# Altium schematic symbol library D 单片机.SchLib: 30 symbols
Pins are listed as number, name and electrical type; pins without a type are passive.

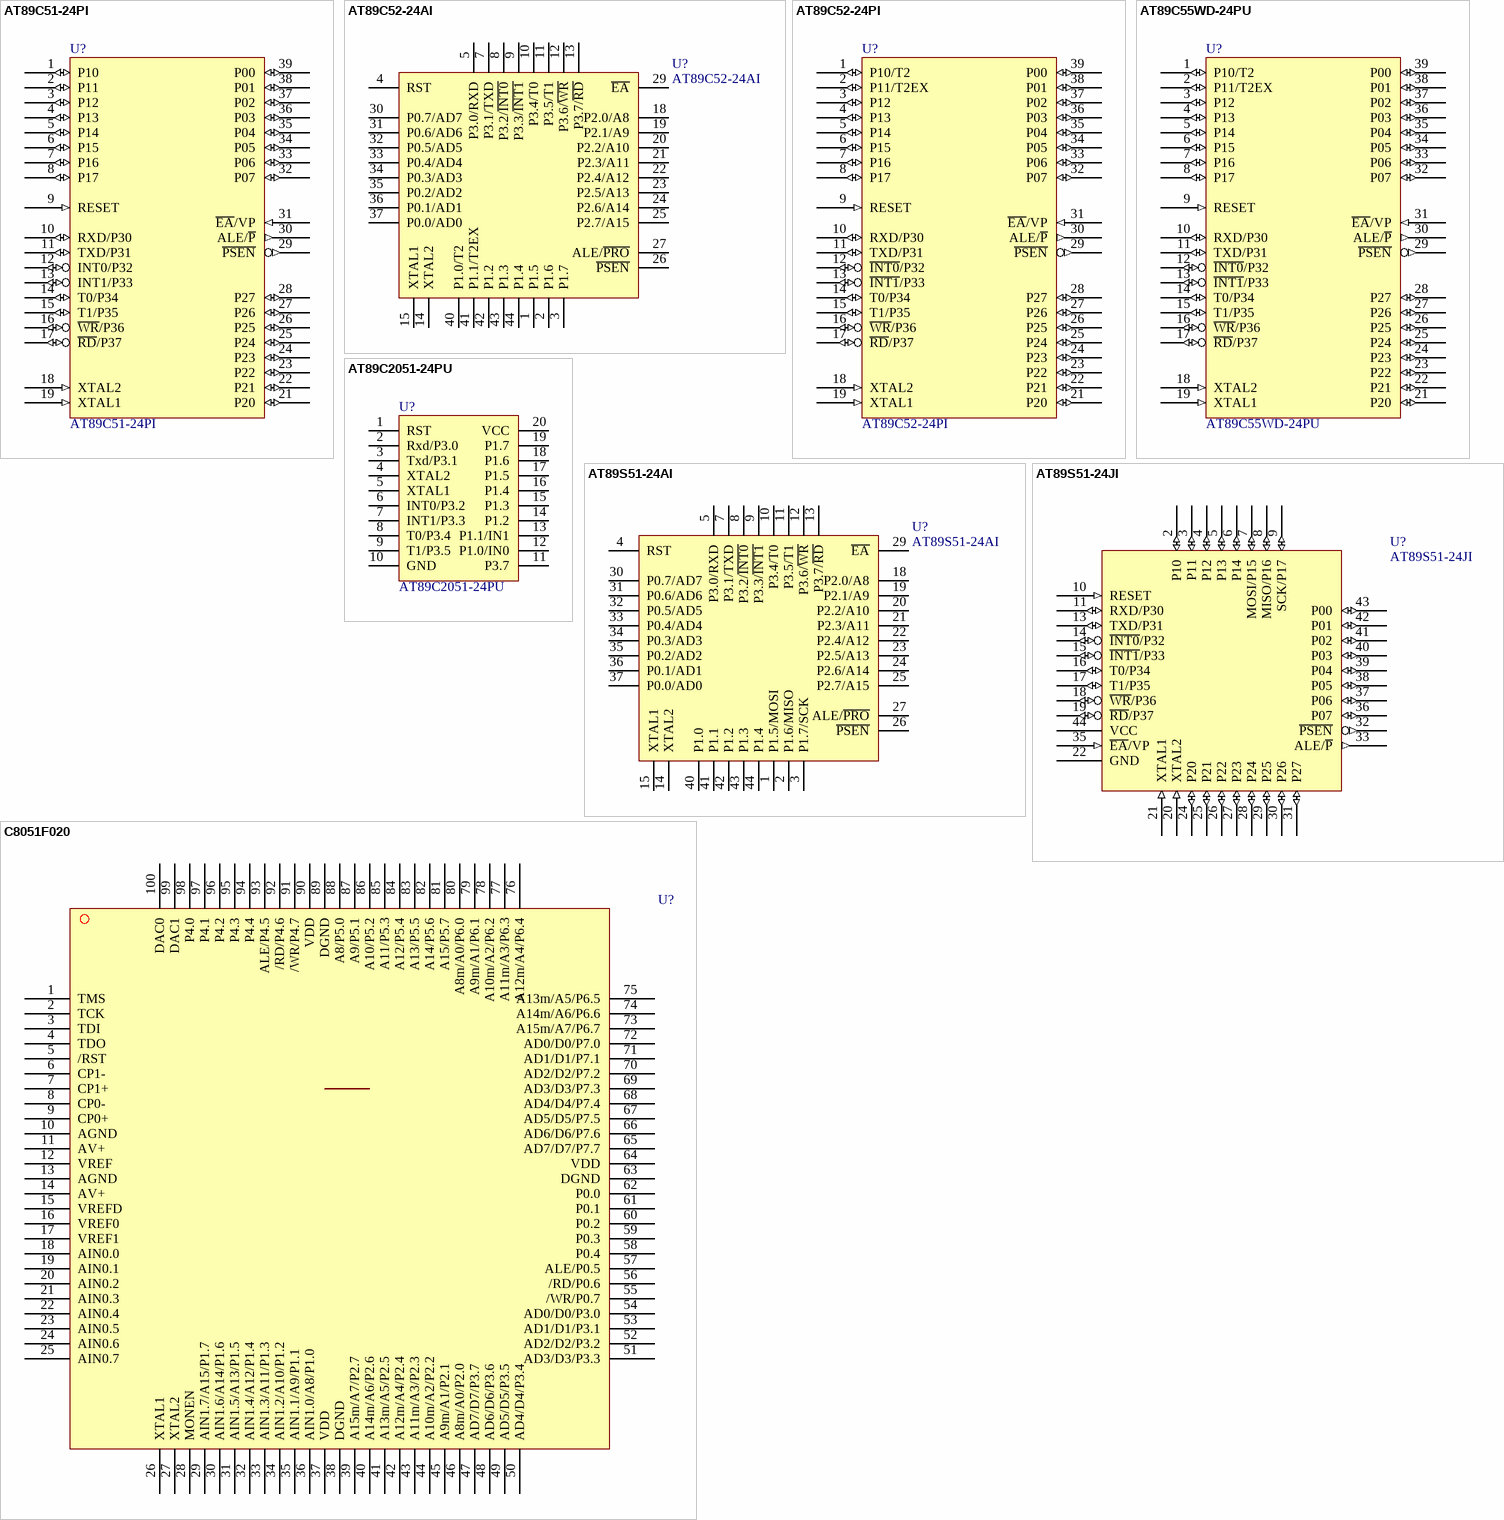
[diagram p0: symbols AT89C51-24PI to C8051F020]

## AT89C51-24PI
designator U?
ATMEL 51单片机
footprint DIP-40 (IC)
pins: 1 P10 (io), 2 P11 (io), 3 P12 (io), 4 P13 (io), 5 P14 (io), 6 P15 (io), 7 P16 (io), 8 P17 (io), 9 RESET (in), 10 RXD/P30 (io), 11 TXD/P31 (io), 12 INT0/P32 (io), 13 INT1/P33 (io), 14 T0/P34 (io), 15 T1/P35 (io), 16 ~{WR}/P36 (io), 17 ~{RD}/P37 (io), 18 XTAL2 (in), 19 XTAL1 (in), 20 GND hidden to GND, 21 P20 (io), 22 P21 (io), 23 P22 (io), 24 P23 (io), 25 P24 (io), 26 P25 (io), 27 P26 (io), 28 P27 (io), 29 ~{PSEN} (out), 30 ALE/~{P} (out), 31 ~{EA}/VP (in), 32 P07 (io), 33 P06 (io), 34 P05 (io), 35 P04 (io), 36 P03 (io), 37 P02 (io), 38 P01 (io), 39 P00 (io), 40 VCC hidden to VCC

## AT89C52-24AI
designator U?
ATMEL 51单片机
footprint TQFP-44
pins: 1 P1.5, 2 P1.6, 3 P1.7, 4 RST, 5 P3.0/RXD, 7 P3.1/TXD, 8 P3.2/~{INT0}, 9 P3.3/~{INT1}, 10 P3.4/T0, 11 P3.5/T1, 12 P3.6/~{WR}, 13 P3.7/~{RD}, 14 XTAL2, 15 XTAL1, 16 GND hidden to GND, 18 P2.0/A8, 19 P2.1/A9, 20 P2.2/A10, 21 P2.3/A11, 22 P2.4/A12, 23 P2.5/A13, 24 P2.6/A14, 25 P2.7/A15, 26 ~{PSEN}, 27 ALE/~{PRO}, 29 ~{EA}, 30 P0.7/AD7, 31 P0.6/AD6, 32 P0.5/AD5, 33 P0.4/AD4, 34 P0.3/AD3, 35 P0.2/AD2, 36 P0.1/AD1, 37 P0.0/AD0, 38 VCC hidden to VCC, 40 P1.0/T2, 41 P1.1/T2EX, 42 P1.2, 43 P1.3, 44 P1.4

## AT89C52-24PI
designator U?
ATMEL 51单片机
footprint DIP-40 (IC)
pins: 1 P10/T2 (io), 2 P11/T2EX (io), 3 P12 (io), 4 P13 (io), 5 P14 (io), 6 P15 (io), 7 P16 (io), 8 P17 (io), 9 RESET (in), 10 RXD/P30 (io), 11 TXD/P31 (io), 12 ~{INT0}/P32 (io), 13 ~{INT1}/P33 (io), 14 T0/P34 (io), 15 T1/P35 (io), 16 ~{WR}/P36 (io), 17 ~{RD}/P37 (io), 18 XTAL2 (in), 19 XTAL1 (in), 20 GND hidden to GND, 21 P20 (io), 22 P21 (io), 23 P22 (io), 24 P23 (io), 25 P24 (io), 26 P25 (io), 27 P26 (io), 28 P27 (io), 29 ~{PSEN} (out), 30 ALE/~{P} (out), 31 ~{EA}/VP (in), 32 P07 (io), 33 P06 (io), 34 P05 (io), 35 P04 (io), 36 P03 (io), 37 P02 (io), 38 P01 (io), 39 P00 (io), 40 VCC hidden to VCC

## AT89C55WD-24PU
designator U?
ATMEL 51单片机
footprint DIP-40 (IC)
pins: 1 P10/T2 (io), 2 P11/T2EX (io), 3 P12 (io), 4 P13 (io), 5 P14 (io), 6 P15 (io), 7 P16 (io), 8 P17 (io), 9 RESET (in), 10 RXD/P30 (io), 11 TXD/P31 (io), 12 ~{INT0}/P32 (io), 13 ~{INT1}/P33 (io), 14 T0/P34 (io), 15 T1/P35 (io), 16 ~{WR}/P36 (io), 17 ~{RD}/P37 (io), 18 XTAL2 (in), 19 XTAL1 (in), 20 GND hidden to GND, 21 P20 (io), 22 P21 (io), 23 P22 (io), 24 P23 (io), 25 P24 (io), 26 P25 (io), 27 P26 (io), 28 P27 (io), 29 ~{PSEN} (out), 30 ALE/~{P} (out), 31 ~{EA}/VP (in), 32 P07 (io), 33 P06 (io), 34 P05 (io), 35 P04 (io), 36 P03 (io), 37 P02 (io), 38 P01 (io), 39 P00 (io), 40 VCC hidden to VCC

## AT89C2051-24PU
designator U?
ATMEL 51单片机
footprint DIP-20 (IC)
pins: 1 RST, 2 Rxd/P3.0, 3 Txd/P3.1, 4 XTAL2, 5 XTAL1, 6 INT0/P3.2, 7 INT1/P3.3, 8 T0/P3.4, 9 T1/P3.5, 10 GND (power), 11 P3.7, 12 P1.0/IN0, 13 P1.1/IN1, 14 P1.2, 15 P1.3, 16 P1.4, 17 P1.5, 18 P1.6, 19 P1.7, 20 VCC (power)

## AT89S51-24AI
designator U?
ATMEL 51单片机
footprint TQFP-44
pins: 1 P1.5/MOSI, 2 P1.6/MISO, 3 P1.7/SCK, 4 RST, 5 P3.0/RXD, 7 P3.1/TXD, 8 P3.2/~{INT0}, 9 P3.3/~{INT1}, 10 P3.4/T0, 11 P3.5/T1, 12 P3.6/~{WR}, 13 P3.7/~{RD}, 14 XTAL2, 15 XTAL1, 16 GND hidden to GND, 18 P2.0/A8, 19 P2.1/A9, 20 P2.2/A10, 21 P2.3/A11, 22 P2.4/A12, 23 P2.5/A13, 24 P2.6/A14, 25 P2.7/A15, 26 ~{PSEN}, 27 ALE/~{PRO}, 29 ~{EA}, 30 P0.7/AD7, 31 P0.6/AD6, 32 P0.5/AD5, 33 P0.4/AD4, 34 P0.3/AD3, 35 P0.2/AD2, 36 P0.1/AD1, 37 P0.0/AD0, 38 VCC hidden to VCC, 40 P1.0, 41 P1.1, 42 P1.2, 43 P1.3, 44 P1.4

## AT89S51-24JI
designator U?
ATMEL 51单片机
footprint PLCC-44 (Footprint not found)
pins: 2 P10 (io), 3 P11 (io), 4 P12 (io), 5 P13 (io), 6 P14 (io), 7 MOSI/P15 (io), 8 MISO/P16 (io), 9 SCK/P17 (io), 10 RESET (in), 11 RXD/P30 (io), 13 TXD/P31 (io), 14 ~{INT0}/P32 (io), 15 ~{INT1}/P33 (io), 16 T0/P34 (io), 17 T1/P35 (io), 18 ~{WR}/P36 (io), 19 ~{RD}/P37 (io), 20 XTAL2 (in), 21 XTAL1 (in), 22 GND (power), 24 P20 (io), 25 P21 (io), 26 P22 (io), 27 P23 (io), 28 P24 (io), 29 P25 (io), 30 P26 (io), 31 P27 (io), 32 ~{PSEN} (out), 33 ALE/~{P} (out), 35 ~{EA}/VP (in), 36 P07 (io), 37 P06 (io), 38 P05 (io), 39 P04 (io), 40 P03 (io), 41 P02 (io), 42 P01 (io), 43 P00 (io), 44 VCC (power)

## C8051F020
designator U?
CYGNAL单片机
pins: 1 TMS, 2 TCK, 3 TDI, 4 TDO, 5 /RST, 6 CP1-, 7 CP1+, 8 CP0-, 9 CP0+, 10 AGND, 11 AV+, 12 VREF, 13 AGND, 14 AV+, 15 VREFD, 16 VREF0, 17 VREF1, 18 AIN0.0, 19 AIN0.1, 20 AIN0.2, 21 AIN0.3, 22 AIN0.4, 23 AIN0.5, 24 AIN0.6, 25 AIN0.7, 26 XTAL1, 27 XTAL2, 28 MONEN, 29 AIN1.7/A15/P1.7, 30 AIN1.6/A14/P1.6, 31 AIN1.5/A13/P1.5, 32 AIN1.4/A12/P1.4, 33 AIN1.3/A11/P1.3, 34 AIN1.2/A10/P1.2, 35 AIN1.1/A9/P1.1, 36 AIN1.0/A8/P1.0, 37 VDD, 38 DGND, 39 A15m/A7/P2.7, 40 A14m/A6/P2.6, 41 A13m/A5/P2.5, 42 A12m/A4/P2.4, 43 A11m/A3/P2.3, 44 A10m/A2/P2.2, 45 A9m/A1/P2.1, 46 A8m/A0/P2.0, 47 AD7/D7/P3.7, 48 AD6/D6/P3.6, 49 AD5/D5/P3.5, 50 AD4/D4/P3.4, 51 AD3/D3/P3.3, 52 AD2/D2/P3.2, 53 AD1/D1/P3.1, 54 AD0/D0/P3.0, 55 /WR/P0.7, 56 /RD/P0.6, 57 ALE/P0.5, 58 P0.4, 59 P0.3, 60 P0.2, 61 P0.1, 62 P0.0, 63 DGND, 64 VDD, 65 AD7/D7/P7.7, 66 AD6/D6/P7.6, 67 AD5/D5/P7.5, 68 AD4/D4/P7.4, 69 AD3/D3/P7.3, 70 AD2/D2/P7.2, 71 AD1/D1/P7.1, 72 AD0/D0/P7.0, 73 A15m/A7/P6.7, 74 A14m/A6/P6.6, 75 A13m/A5/P6.5, 76 A12m/A4/P6.4, 77 A11m/A3/P6.3, 78 A10m/A2/P6.2, 79 A9m/A1/P6.1, 80 A8m/A0/P6.0, 81 A15/P5.7, 82 A14/P5.6, 83 A13/P5.5, 84 A12/P5.4, 85 A11/P5.3, 86 A10/P5.2, 87 A9/P5.1, 88 A8/P5.0, 89 DGND, 90 VDD, 91 /WR/P4.7, 92 /RD/P4.6, 93 ALE/P4.5, 94 P4.4, 95 P4.3, 96 P4.2, 97 P4.1, 98 P4.0, 99 DAC1, 100 DAC0

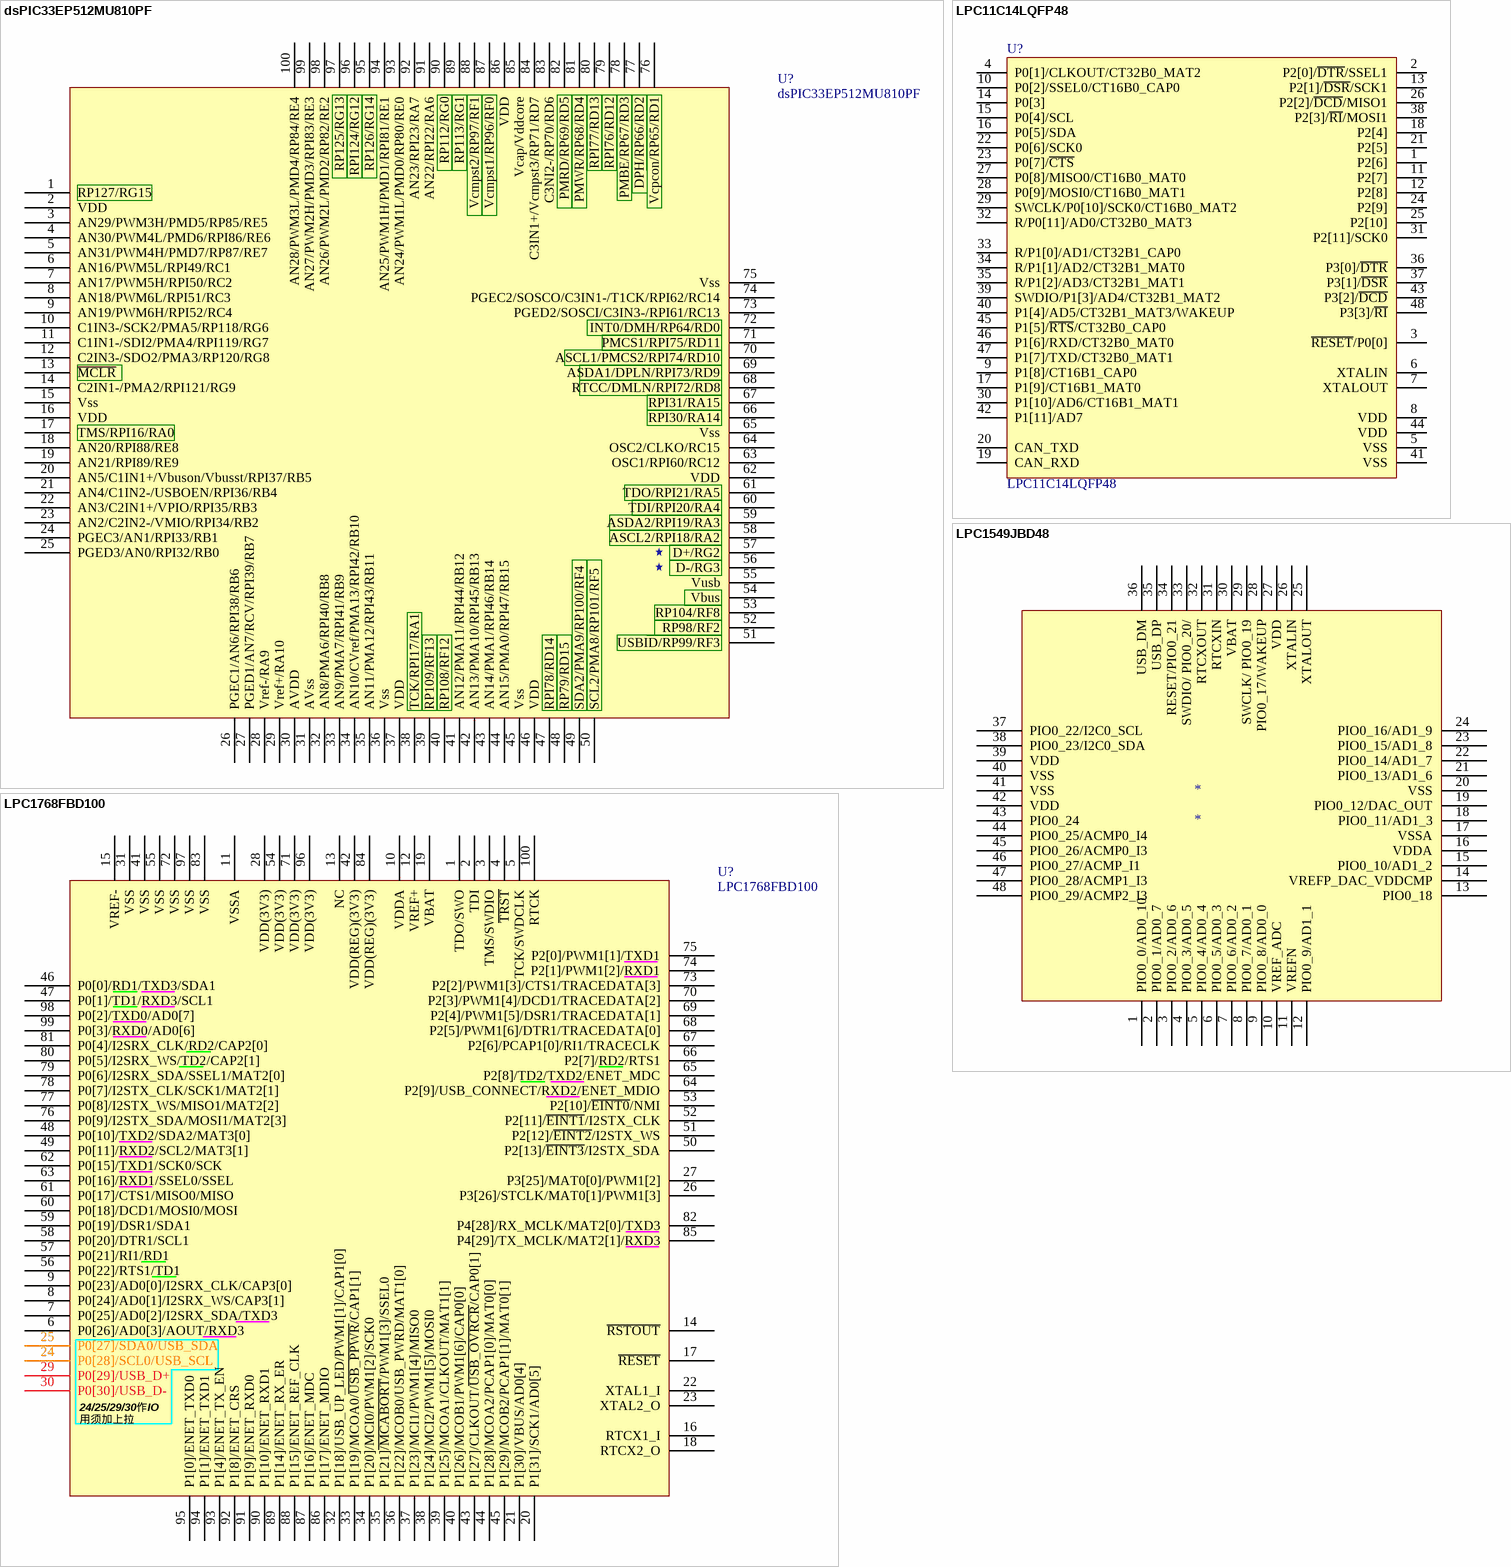
[diagram p1: symbols dsPIC33EP512MU810PF to LPC1768FBD100]

## dsPIC33EP512MU810PF
designator U?
MicroChip PIC ARM
footprint LQFP-100 (14mmx14mmx1.4mm)
pins: 1 RP127/RG15, 2 VDD, 3 AN29/PWM3H/PMD5/RP85/RE5, 4 AN30/PWM4L/PMD6/RPI86/RE6, 5 AN31/PWM4H/PMD7/RP87/RE7, 6 AN16/PWM5L/RPI49/RC1, 7 AN17/PWM5H/RPI50/RC2, 8 AN18/PWM6L/RPI51/RC3, 9 AN19/PWM6H/RPI52/RC4, 10 C1IN3-/SCK2/PMA5/RP118/RG6, 11 C1IN1-/SDI2/PMA4/RPI119/RG7, 12 C2IN3-/SDO2/PMA3/RP120/RG8, 13 ~{MCLR}, 14 C2IN1-/PMA2/RPI121/RG9, 15 Vss, 16 VDD, 17 TMS/RPI16/RA0, 18 AN20/RPI88/RE8, 19 AN21/RPI89/RE9, 20 AN5/C1IN1+/Vbuson/Vbusst/RPI37/RB5, 21 AN4/C1IN2-/USBOEN/RPI36/RB4, 22 AN3/C2IN1+/VPIO/RPI35/RB3, 23 AN2/C2IN2-/VMIO/RPI34/RB2, 24 PGEC3/AN1/RPI33/RB1, 25 PGED3/AN0/RPI32/RB0, 26 PGEC1/AN6/RPI38/RB6, 27 PGED1/AN7/RCV/RPI39/RB7, 28 Vref-/RA9, 29 Vref+/RA10, 30 AVDD, 31 AVss, 32 AN8/PMA6/RPI40/RB8, 33 AN9/PMA7/RPI41/RB9, 34 AN10/CVref/PMA13/RPI42/RB10, 35 AN11/PMA12/RPI43/RB11, 36 Vss, 37 VDD, 38 TCK/RPI17/RA1, 39 RP109/RF13, 40 RP108/RF12, 41 AN12/PMA11/RPI44/RB12, 42 AN13/PMA10/RPI45/RB13, 43 AN14/PMA1/RPI46/RB14, 44 AN15/PMA0/RPI47/RB15, 45 Vss, 46 VDD, 47 RPI78/RD14, 48 RP79/RD15, 49 SDA2/PMA9/RP100/RF4, 50 SCL2/PMA8/RP101/RF5, 51 USBID/RP99/RF3, 52 RP98/RF2, 53 RP104/RF8, 54 Vbus, 55 Vusb, 56 D-/RG3, 57 D+/RG2, 58 ASCL2/RPI18/RA2, 59 ASDA2/RPI19/RA3, 60 TDI/RPI20/RA4, 61 TDO/RPI21/RA5, 62 VDD, 63 OSC1/RPI60/RC12, 64 OSC2/CLKO/RC15, 65 Vss, 66 RPI30/RA14, 67 RPI31/RA15, 68 RTCC/DMLN/RPI72/RD8, 69 ASDA1/DPLN/RPI73/RD9, 70 ASCL1/PMCS2/RPI74/RD10, 71 PMCS1/RPI75/RD11, 72 INT0/DMH/RP64/RD0, 73 PGED2/SOSCI/C3IN3-/RPI61/RC13, 74 PGEC2/SOSCO/C3IN1-/T1CK/RPI62/RC14, 75 Vss, 76 Vcpcon/RP65/RD1, 77 DPH/RP66/RD2, 78 PMBE/RP67/RD3, 79 RPI76/RD12, 80 RPI77/RD13, 81 PMWR/RP68/RD4, 82 PMRD/RP69/RD5, 83 C3NI2-/RP70/RD6, 84 C3IN1+/Vcmpst3/RP71/RD7, 85 Vcap/Vddcore, 86 VDD, 87 Vcmpst1/RP96/RF0, 88 Vcmpst2/RP97/RF1, 89 RP113/RG1, 90 RP112/RG0, 91 AN22/RPI22/RA6, 92 AN23/RPI23/RA7, 93 AN24/PWM1L/PMD0/RP80/RE0, 94 AN25/PWM1H/PMD1/RPI81/RE1, 95 RP126/RG14, 96 RPI124/RG12, 97 RP125/RG13, 98 AN26/PWM2L/PMD2/RP82/RE2, 99 AN27/PWM2H/PMD3/RPI83/RE3, 100 AN28/PWM3L/PMD4/RP84/RE4
text: ★

## LPC11C14LQFP48
designator U?
NXP Cortex M0
footprint LQFP-48 (Footprint not found)
pins: 1 P2[6], 2 P2[0]/~{DTR}/SSEL1, 3 ~{RESET}/P0[0], 4 P0[1]/CLKOUT/CT32B0_MAT2, 5 VSS, 6 XTALIN, 7 XTALOUT, 8 VDD, 9 P1[8]/CT16B1_CAP0, 10 P0[2]/SSEL0/CT16B0_CAP0, 11 P2[7], 12 P2[8], 13 P2[1]/~{DSR}/SCK1, 14 P0[3], 15 P0[4]/SCL, 16 P0[5]/SDA, 17 P1[9]/CT16B1_MAT0, 18 P2[4], 19 CAN_RXD, 20 CAN_TXD, 21 P2[5], 22 P0[6]/SCK0, 23 P0[7]/~{CTS}, 24 P2[9], 25 P2[10], 26 P2[2]/~{DCD}/MISO1, 27 P0[8]/MISO0/CT16B0_MAT0, 28 P0[9]/MOSI0/CT16B0_MAT1, 29 SWCLK/P0[10]/SCK0/CT16B0_MAT2, 30 P1[10]/AD6/CT16B1_MAT1, 31 P2[11]/SCK0, 32 R/P0[11]/AD0/CT32B0_MAT3, 33 R/P1[0]/AD1/CT32B1_CAP0, 34 R/P1[1]/AD2/CT32B1_MAT0, 35 R/P1[2]/AD3/CT32B1_MAT1, 36 P3[0]/~{DTR}, 37 P3[1]/~{DSR}, 38 P2[3]/~{RI}/MOSI1, 39 SWDIO/P1[3]/AD4/CT32B1_MAT2, 40 P1[4]/AD5/CT32B1_MAT3/WAKEUP, 41 VSS, 42 P1[11]/AD7, 43 P3[2]/~{DCD}, 44 VDD, 45 P1[5]/~{RTS}/CT32B0_CAP0, 46 P1[6]/RXD/CT32B0_MAT0, 47 P1[7]/TXD/CT32B0_MAT1, 48 P3[3]/~{RI}

## LPC1549JBD48
designator *
pins: 1 PIO0_0/AD0_10, 2 PIO0_1/AD0_7, 3 PIO0_2/AD0_6, 4 PIO0_3/AD0_5, 5 PIO0_4/AD0_4, 6 PIO0_5/AD0_3, 7 PIO0_6/AD0_2, 8 PIO0_7/AD0_1, 9 PIO0_8/AD0_0, 10 VREF_ADC, 11 VREFN, 12 PIO0_9/AD1_1, 13 PIO0_18, 14 VREFP_DAC_VDDCMP, 15 PIO0_10/AD1_2, 16 VDDA, 17 VSSA, 18 PIO0_11/AD1_3, 19 PIO0_12/DAC_OUT, 20 VSS, 21 PIO0_13/AD1_6, 22 PIO0_14/AD1_7, 23 PIO0_15/AD1_8, 24 PIO0_16/AD1_9, 25 XTALOUT, 26 XTALIN, 27 VDD, 28 PIO0_17/WAKEUP, 29 SWCLK/ PIO0_19, 30 VBAT, 31 RTCXIN, 32 RTCXOUT, 33 SWDIO/ PIO0_20/, 34 RESET/PIO0_21, 35 USB_DP, 36 USB_DM, 37 PIO0_22/I2C0_SCL, 38 PIO0_23/I2C0_SDA, 39 VDD, 40 VSS, 41 VSS, 42 VDD, 43 PIO0_24, 44 PIO0_25/ACMP0_I4, 45 PIO0_26/ACMP0_I3, 46 PIO0_27/ACMP_I1, 47 PIO0_28/ACMP1_I3, 48 PIO0_29/ACMP2_I3

## LPC1768FBD100
designator U?
NXP Cotex M3
footprint LQFP-100 (14mmx14mmx1.4mm)
pins: 1 TDO/SWO, 2 TDI, 3 TMS/SWDIO, 4 ~{TRST}, 5 TCK/SWDCLK, 6 P0[26]/AD0[3]/AOUT/RXD3, 7 P0[25]/AD0[2]/I2SRX_SDA/TXD3, 8 P0[24]/AD0[1]/I2SRX_WS/CAP3[1], 9 P0[23]/AD0[0]/I2SRX_CLK/CAP3[0], 10 VDDA, 11 VSSA, 12 VREF+, 13 NC, 14 ~{RSTOUT}, 15 VREF-, 16 RTCX1_I, 17 ~{RESET}, 18 RTCX2_O, 19 VBAT, 20 P1[31]/SCK1/AD0[5], 21 P1[30]/VBUS/AD0[4], 22 XTAL1_I, 23 XTAL2_O, 24 P0[28]/SCL0/USB_SCL, 25 P0[27]/SDA0/USB_SDA, 26 P3[26]/STCLK/MAT0[1]/PWM1[3], 27 P3[25]/MAT0[0]/PWM1[2], 28 VDD(3V3), 29 P0[29]/USB_D+, 30 P0[30]/USB_D-, 31 VSS, 32 P1[18]/USB_UP_LED/PWM1[1]/CAP1[0], 33 P1[19]/MCOA0/~{USB_PPWR}/CAP1[1], 34 P1[20]/MCI0/PWM1[2]/SCK0, 35 P1[21]~{/MCABORT}/PWM1[3]/SSEL0, 36 P1[22]/MCOB0/USB_PWRD/MAT1[0], 37 P1[23]/MCI1/PWM1[4]/MISO0, 38 P1[24]/MCI2/PWM1[5]/MOSI0, 39 P1[25]/MCOA1/CLKOUT/MAT1[1], 40 P1[26]/MCOB1/PWM1[6]/CAP0[0], 41 VSS, 42 VDD(REG)(3V3), 43 P1[27]/CLKOUT/~{USB_OVRCR}/CAP0[1], 44 P1[28]/MCOA2/PCAP1[0]/MAT0[0], 45 P1[29]/MCOB2/PCAP1[1]/MAT0[1], 46 P0[0]/RD1/TXD3/SDA1, 47 P0[1]/TD1/RXD3/SCL1, 48 P0[10]/TXD2/SDA2/MAT3[0], 49 P0[11]/RXD2/SCL2/MAT3[1], 50 P2[13]/~{EINT3}/I2STX_SDA, 51 P2[12]/~{EINT2}/I2STX_WS, 52 P2[11]/~{EINT1}/I2STX_CLK, 53 P2[10]/~{EINT0}/NMI, 54 VDD(3V3), 55 VSS, 56 P0[22]/RTS1/TD1, 57 P0[21]/RI1/RD1, 58 P0[20]/DTR1/SCL1, 59 P0[19]/DSR1/SDA1, 60 P0[18]/DCD1/MOSI0/MOSI, 61 P0[17]/CTS1/MISO0/MISO, 62 P0[15]/TXD1/SCK0/SCK, 63 P0[16]/RXD1/SSEL0/SSEL, 64 P2[9]/USB_CONNECT/RXD2/ENET_MDIO, 65 P2[8]/TD2/TXD2/ENET_MDC, 66 P2[7]/RD2/RTS1, 67 P2[6]/PCAP1[0]/RI1/TRACECLK, 68 P2[5]/PWM1[6]/DTR1/TRACEDATA[0], 69 P2[4]/PWM1[5]/DSR1/TRACEDATA[1], 70 P2[3]/PWM1[4]/DCD1/TRACEDATA[2], 71 VDD(3V3), 72 VSS, 73 P2[2]/PWM1[3]/CTS1/TRACEDATA[3], 74 P2[1]/PWM1[2]/RXD1, 75 P2[0]/PWM1[1]/TXD1, 76 P0[9]/I2STX_SDA/MOSI1/MAT2[3], 77 P0[8]/I2STX_WS/MISO1/MAT2[2], 78 P0[7]/I2STX_CLK/SCK1/MAT2[1], 79 P0[6]/I2SRX_SDA/SSEL1/MAT2[0], 80 P0[5]/I2SRX_WS/TD2/CAP2[1], 81 P0[4]/I2SRX_CLK/RD2/CAP2[0], 82 P4[28]/RX_MCLK/MAT2[0]/TXD3, 83 VSS, 84 VDD(REG)(3V3), 85 P4[29]/TX_MCLK/MAT2[1]/RXD3, 86 P1[17]/ENET_MDIO, 87 P1[16]/ENET_MDC, 88 P1[15]/ENET_REF_CLK, 89 P1[14]/ENET_RX_ER, 90 P1[10]/ENET_RXD1, 91 P1[9]/ENET_RXD0, 92 P1[8]/ENET_CRS, 93 P1[4]/ENET_TX_EN, 94 P1[1]/ENET_TXD1, 95 P1[0]/ENET_TXD0, 96 VDD(3V3), 97 VSS, 98 P0[2]/TXD0/AD0[7], 99 P0[3]/RXD0/AD0[6], 100 RTCK
text: 24/25/29/30作IO用须加上拉

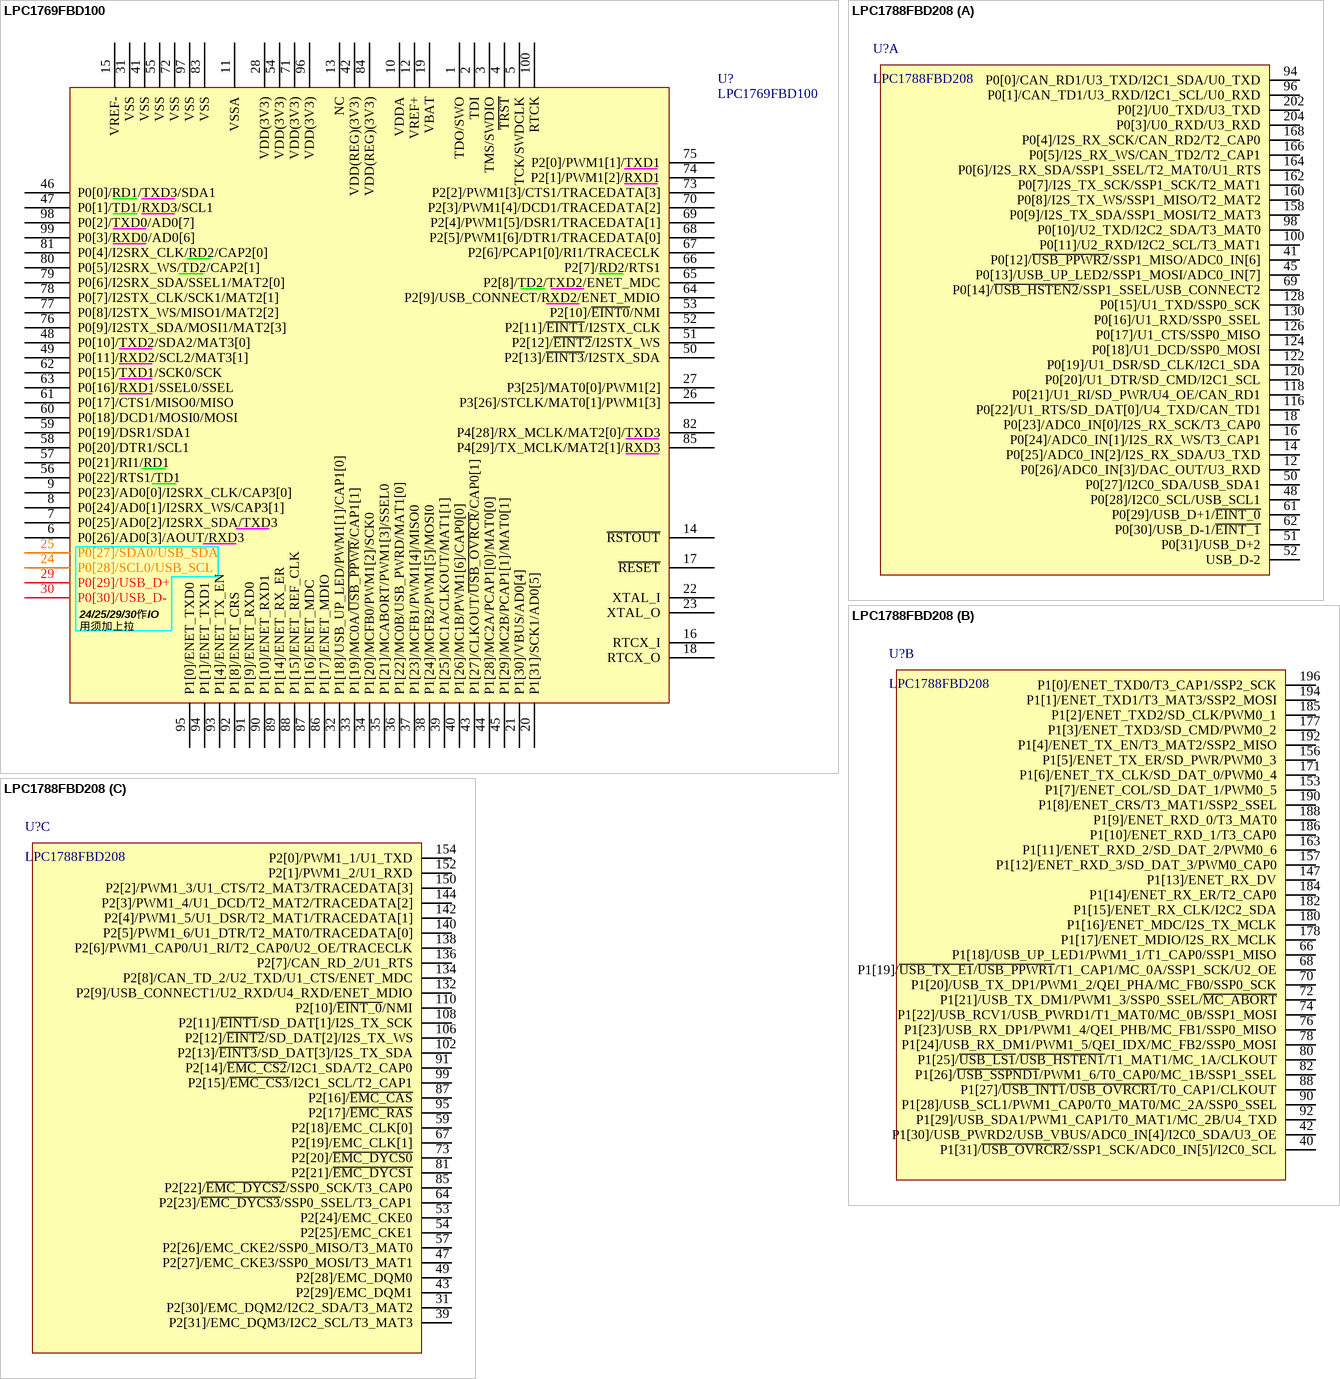
[diagram p2: symbols LPC1769FBD100 to LPC1788FBD208]

## LPC1769FBD100
designator U?
NXP Cotex M3
footprint LQFP-100 (14mmx14mmx1.4mm)
pins: 1 TDO/SWO, 2 TDI, 3 TMS/SWDIO, 4 ~{TRST}, 5 TCK/SWDCLK, 6 P0[26]/AD0[3]/AOUT/RXD3, 7 P0[25]/AD0[2]/I2SRX_SDA/TXD3, 8 P0[24]/AD0[1]/I2SRX_WS/CAP3[1], 9 P0[23]/AD0[0]/I2SRX_CLK/CAP3[0], 10 VDDA, 11 VSSA, 12 VREF+, 13 NC, 14 ~{RSTOUT}, 15 VREF-, 16 RTCX_I, 17 ~{RESET}, 18 RTCX_O, 19 VBAT, 20 P1[31]/SCK1/AD0[5], 21 P1[30]/VBUS/AD0[4], 22 XTAL_I, 23 XTAL_O, 24 P0[28]/SCL0/USB_SCL, 25 P0[27]/SDA0/USB_SDA, 26 P3[26]/STCLK/MAT0[1]/PWM1[3], 27 P3[25]/MAT0[0]/PWM1[2], 28 VDD(3V3), 29 P0[29]/USB_D+, 30 P0[30]/USB_D-, 31 VSS, 32 P1[18]/USB_UP_LED/PWM1[1]/CAP1[0], 33 P1[19]/MC0A/~{USB_PPWR}/CAP1[1], 34 P1[20]/MCFB0/PWM1[2]/SCK0, 35 P1[21]/MCABORT/PWM1[3]/SSEL0, 36 P1[22]/MC0B/USB_PWRD/MAT1[0], 37 P1[23]/MCFB1/PWM1[4]/MISO0, 38 P1[24]/MCFB2/PWM1[5]/MOSI0, 39 P1[25]/MC1A/CLKOUT/MAT1[1], 40 P1[26]/MC1B/PWM1[6]/CAP0[0], 41 VSS, 42 VDD(REG)(3V3), 43 P1[27]/CLKOUT/~{USB_OVRCR}/CAP0[1], 44 P1[28]/MC2A/PCAP1[0]/MAT0[0], 45 P1[29]/MC2B/PCAP1[1]/MAT0[1], 46 P0[0]/RD1/TXD3/SDA1, 47 P0[1]/TD1/RXD3/SCL1, 48 P0[10]/TXD2/SDA2/MAT3[0], 49 P0[11]/RXD2/SCL2/MAT3[1], 50 P2[13]/~{EINT3}/I2STX_SDA, 51 P2[12]/~{EINT2}/I2STX_WS, 52 P2[11]/~{EINT1}/I2STX_CLK, 53 P2[10]/~{EINT0}/NMI, 54 VDD(3V3), 55 VSS, 56 P0[22]/RTS1/TD1, 57 P0[21]/RI1/RD1, 58 P0[20]/DTR1/SCL1, 59 P0[19]/DSR1/SDA1, 60 P0[18]/DCD1/MOSI0/MOSI, 61 P0[17]/CTS1/MISO0/MISO, 62 P0[15]/TXD1/SCK0/SCK, 63 P0[16]/RXD1/SSEL0/SSEL, 64 P2[9]/USB_CONNECT/RXD2/ENET_MDIO, 65 P2[8]/TD2/TXD2/ENET_MDC, 66 P2[7]/RD2/RTS1, 67 P2[6]/PCAP1[0]/RI1/TRACECLK, 68 P2[5]/PWM1[6]/DTR1/TRACEDATA[0], 69 P2[4]/PWM1[5]/DSR1/TRACEDATA[1], 70 P2[3]/PWM1[4]/DCD1/TRACEDATA[2], 71 VDD(3V3), 72 VSS, 73 P2[2]/PWM1[3]/CTS1/TRACEDATA[3], 74 P2[1]/PWM1[2]/RXD1, 75 P2[0]/PWM1[1]/TXD1, 76 P0[9]/I2STX_SDA/MOSI1/MAT2[3], 77 P0[8]/I2STX_WS/MISO1/MAT2[2], 78 P0[7]/I2STX_CLK/SCK1/MAT2[1], 79 P0[6]/I2SRX_SDA/SSEL1/MAT2[0], 80 P0[5]/I2SRX_WS/TD2/CAP2[1], 81 P0[4]/I2SRX_CLK/RD2/CAP2[0], 82 P4[28]/RX_MCLK/MAT2[0]/TXD3, 83 VSS, 84 VDD(REG)(3V3), 85 P4[29]/TX_MCLK/MAT2[1]/RXD3, 86 P1[17]/ENET_MDIO, 87 P1[16]/ENET_MDC, 88 P1[15]/ENET_REF_CLK, 89 P1[14]/ENET_RX_ER, 90 P1[10]/ENET_RXD1, 91 P1[9]/ENET_RXD0, 92 P1[8]/ENET_CRS, 93 P1[4]/ENET_TX_EN, 94 P1[1]/ENET_TXD1, 95 P1[0]/ENET_TXD0, 96 VDD(3V3), 97 VSS, 98 P0[2]/TXD0/AD0[7], 99 P0[3]/RXD0/AD0[6], 100 RTCK
text: 24/25/29/30作IO用须加上拉

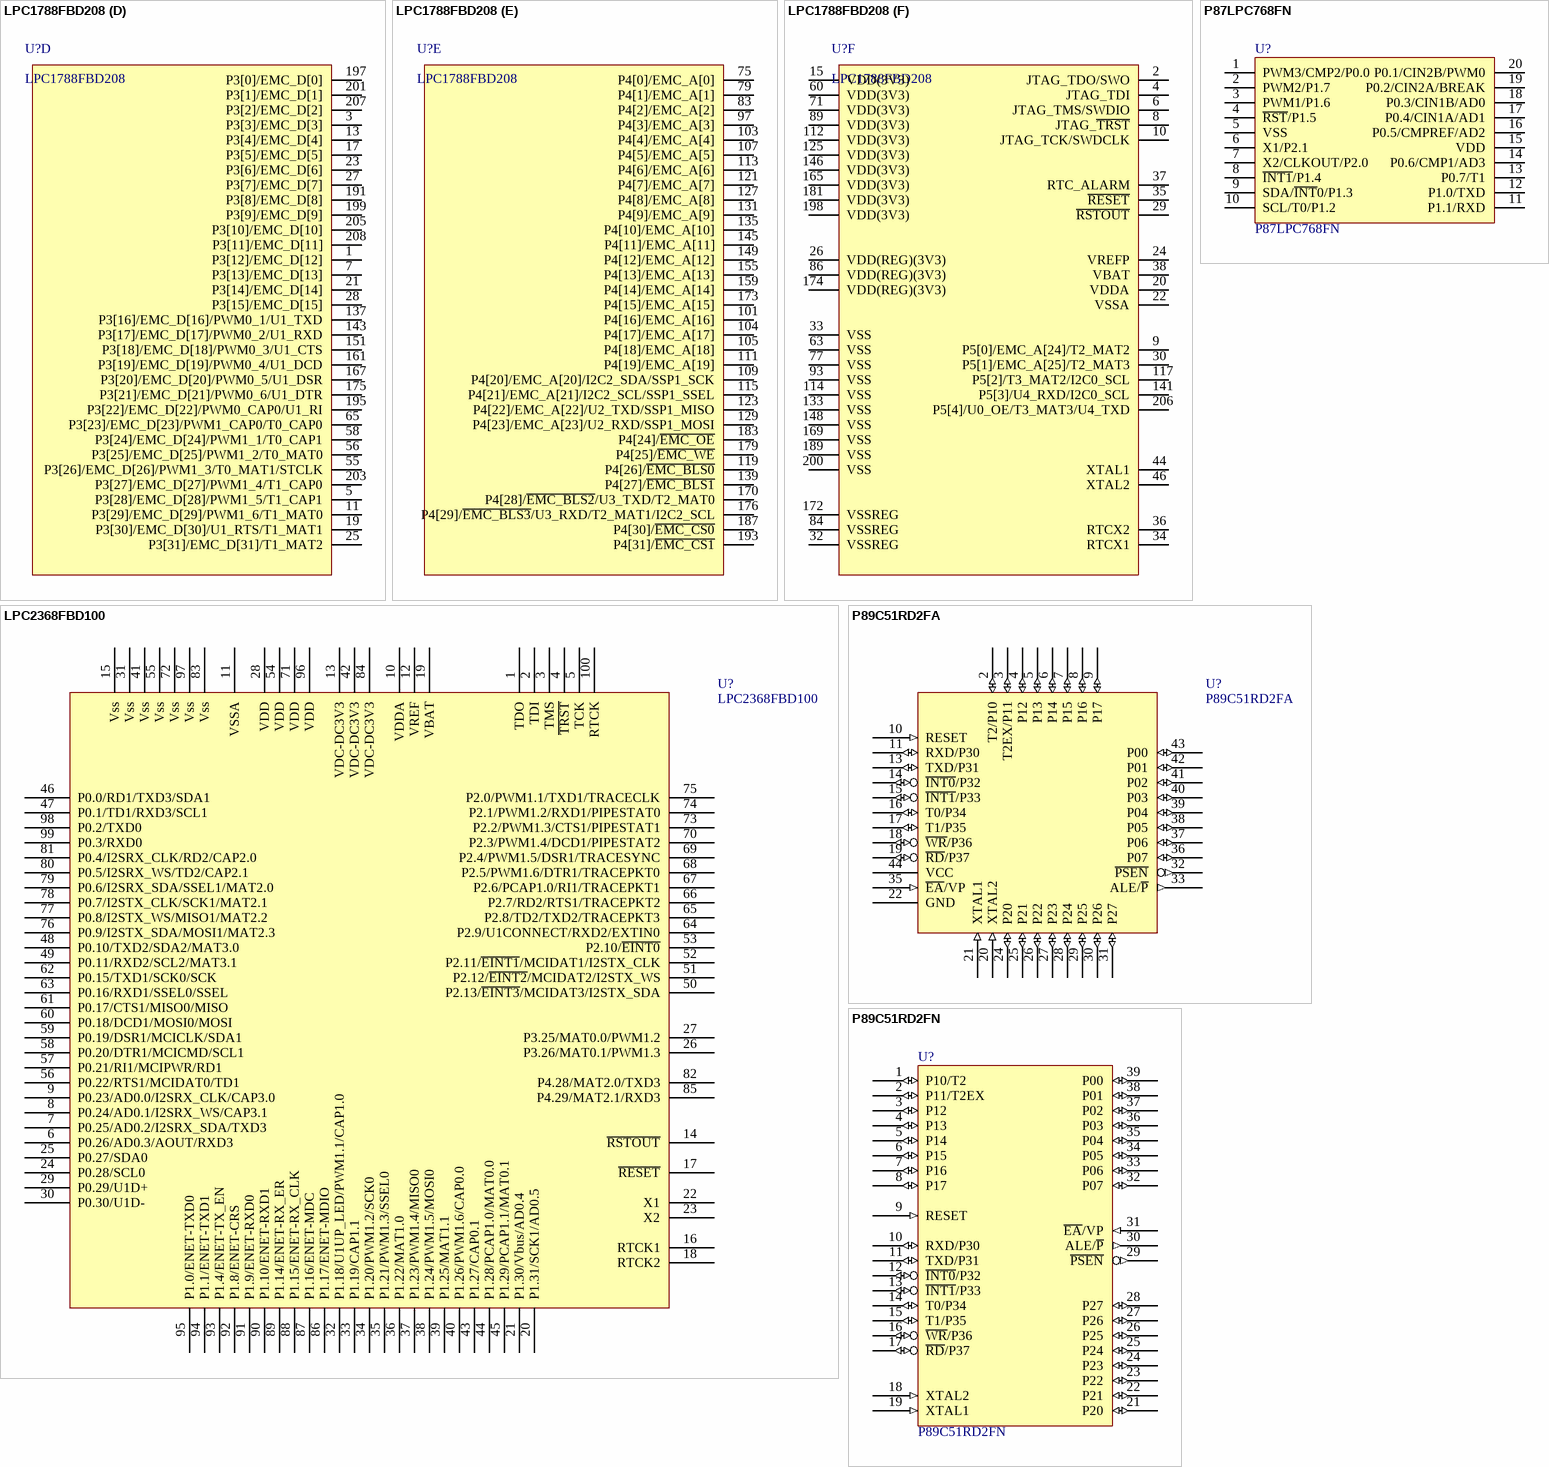
[diagram p3: symbols LPC1788FBD208 to P89C51RD2FN]

## LPC1788FBD208
designator U?
NXP Cotex M3
part A pins: 12 P0[26]/ADC0_IN[3]/DAC_OUT/U3_RXD, 14 P0[25]/ADC0_IN[2]/I2S_RX_SDA/U3_TXD, 16 P0[24]/ADC0_IN[1]/I2S_RX_WS/T3_CAP1, 18 P0[23]/ADC0_IN[0]/I2S_RX_SCK/T3_CAP0, 41 P0[12]/~{USB_PPWR2}/SSP1_MISO/ADC0_IN[6], 45 P0[13]/USB_UP_LED2/SSP1_MOSI/ADC0_IN[7], 48 P0[28]/I2C0_SCL/USB_SCL1, 50 P0[27]/I2C0_SDA/USB_SDA1, 51 P0[31]/USB_D+2, 52 USB_D-2, 61 P0[29]/USB_D+1/~{EINT_0}, 62 P0[30]/USB_D-1/~{EINT_1}, 69 P0[14]/~{USB_HSTEN2}/SSP1_SSEL/USB_CONNECT2, 94 P0[0]/CAN_RD1/U3_TXD/I2C1_SDA/U0_TXD, 96 P0[1]/CAN_TD1/U3_RXD/I2C1_SCL/U0_RXD, 98 P0[10]/U2_TXD/I2C2_SDA/T3_MAT0, 100 P0[11]/U2_RXD/I2C2_SCL/T3_MAT1, 116 P0[22]/U1_RTS/SD_DAT[0]/U4_TXD/CAN_TD1, 118 P0[21]/U1_RI/SD_PWR/U4_OE/CAN_RD1, 120 P0[20]/U1_DTR/SD_CMD/I2C1_SCL, 122 P0[19]/U1_DSR/SD_CLK/I2C1_SDA, 124 P0[18]/U1_DCD/SSP0_MOSI, 126 P0[17]/U1_CTS/SSP0_MISO, 128 P0[15]/U1_TXD/SSP0_SCK, 130 P0[16]/U1_RXD/SSP0_SSEL, 158 P0[9]/I2S_TX_SDA/SSP1_MOSI/T2_MAT3, 160 P0[8]/I2S_TX_WS/SSP1_MISO/T2_MAT2, 162 P0[7]/I2S_TX_SCK/SSP1_SCK/T2_MAT1, 164 P0[6]/I2S_RX_SDA/SSP1_SSEL/T2_MAT0/U1_RTS, 166 P0[5]/I2S_RX_WS/CAN_TD2/T2_CAP1, 168 P0[4]/I2S_RX_SCK/CAN_RD2/T2_CAP0, 202 P0[2]/U0_TXD/U3_TXD, 204 P0[3]/U0_RXD/U3_RXD
part B pins: 40 P1[31]/~{USB_OVRCR2}/SSP1_SCK/ADC0_IN[5]/I2C0_SCL, 42 P1[30]/USB_PWRD2/USB_VBUS/ADC0_IN[4]/I2C0_SDA/U3_OE, 66 P1[18]/USB_UP_LED1/PWM1_1/T1_CAP0/SSP1_MISO, 68 P1[19]/~{USB_TX_E1}/~{USB_PPWR1}/T1_CAP1/MC_0A/SSP1_SCK/U2_OE, 70 P1[20]/USB_TX_DP1/PWM1_2/QEI_PHA/MC_FB0/SSP0_SCK, 72 P1[21]/USB_TX_DM1/PWM1_3/SSP0_SSEL/~{MC_ABORT}, 74 P1[22]/USB_RCV1/USB_PWRD1/T1_MAT0/MC_0B/SSP1_MOSI, 76 P1[23]/USB_RX_DP1/PWM1_4/QEI_PHB/MC_FB1/SSP0_MISO, 78 P1[24]/USB_RX_DM1/PWM1_5/QEI_IDX/MC_FB2/SSP0_MOSI, 80 P1[25]/~{USB_LS1}/~{USB_HSTEN1}/T1_MAT1/MC_1A/CLKOUT, 82 P1[26]/~{USB_SSPND1}/PWM1_6/T0_CAP0/MC_1B/SSP1_SSEL, 88 P1[27]/~{USB_INT1}/~{USB_OVRCR1}/T0_CAP1/CLKOUT, 90 P1[28]/USB_SCL1/PWM1_CAP0/T0_MAT0/MC_2A/SSP0_SSEL, 92 P1[29]/USB_SDA1/PWM1_CAP1/T0_MAT1/MC_2B/U4_TXD, 147 P1[13]/ENET_RX_DV, 153 P1[7]/ENET_COL/SD_DAT_1/PWM0_5, 156 P1[5]/ENET_TX_ER/SD_PWR/PWM0_3, 157 P1[12]/ENET_RXD_3/SD_DAT_3/PWM0_CAP0, 163 P1[11]/ENET_RXD_2/SD_DAT_2/PWM0_6, 171 P1[6]/ENET_TX_CLK/SD_DAT_0/PWM0_4, 177 P1[3]/ENET_TXD3/SD_CMD/PWM0_2, 178 P1[17]/ENET_MDIO/I2S_RX_MCLK, 180 P1[16]/ENET_MDC/I2S_TX_MCLK, 182 P1[15]/ENET_RX_CLK/I2C2_SDA, 184 P1[14]/ENET_RX_ER/T2_CAP0, 185 P1[2]/ENET_TXD2/SD_CLK/PWM0_1, 186 P1[10]/ENET_RXD_1/T3_CAP0, 188 P1[9]/ENET_RXD_0/T3_MAT0, 190 P1[8]/ENET_CRS/T3_MAT1/SSP2_SSEL, 192 P1[4]/ENET_TX_EN/T3_MAT2/SSP2_MISO, 194 P1[1]/ENET_TXD1/T3_MAT3/SSP2_MOSI, 196 P1[0]/ENET_TXD0/T3_CAP1/SSP2_SCK
part C pins: 31 P2[30]/EMC_DQM2/I2C2_SDA/T3_MAT2, 39 P2[31]/EMC_DQM3/I2C2_SCL/T3_MAT3, 43 P2[29]/EMC_DQM1, 47 P2[27]/EMC_CKE3/SSP0_MOSI/T3_MAT1, 49 P2[28]/EMC_DQM0, 53 P2[24]/EMC_CKE0, 54 P2[25]/EMC_CKE1, 57 P2[26]/EMC_CKE2/SSP0_MISO/T3_MAT0, 59 P2[18]/EMC_CLK[0], 64 P2[23]/~{EMC_DYCS3}/SSP0_SSEL/T3_CAP1, 67 P2[19]/EMC_CLK[1], 73 P2[20]/~{EMC_DYCS0}, 81 P2[21]/~{EMC_DYCS1}, 85 P2[22]/~{EMC_DYCS2}/SSP0_SCK/T3_CAP0, 87 P2[16]/~{EMC_CAS}, 91 P2[14]/~{EMC_CS2}/I2C1_SDA/T2_CAP0, 95 P2[17]/~{EMC_RAS}, 99 P2[15]/~{EMC_CS3}/I2C1_SCL/T2_CAP1, 102 P2[13]/~{EINT3}/SD_DAT[3]/I2S_TX_SDA, 106 P2[12]/~{EINT2}/SD_DAT[2]/I2S_TX_WS, 108 P2[11]/~{EINT1}/SD_DAT[1]/I2S_TX_SCK, 110 P2[10]/~{EINT_0}/NMI, 132 P2[9]/USB_CONNECT1/U2_RXD/U4_RXD/ENET_MDIO, 134 P2[8]/CAN_TD_2/U2_TXD/U1_CTS/ENET_MDC, 136 P2[7]/CAN_RD_2/U1_RTS, 138 P2[6]/PWM1_CAP0/U1_RI/T2_CAP0/U2_OE/TRACECLK, 140 P2[5]/PWM1_6/U1_DTR/T2_MAT0/TRACEDATA[0], 142 P2[4]/PWM1_5/U1_DSR/T2_MAT1/TRACEDATA[1], 144 P2[3]/PWM1_4/U1_DCD/T2_MAT2/TRACEDATA[2], 150 P2[2]/PWM1_3/U1_CTS/T2_MAT3/TRACEDATA[3], 152 P2[1]/PWM1_2/U1_RXD, 154 P2[0]/PWM1_1/U1_TXD
part D pins: 1 P3[12]/EMC_D[12], 3 P3[3]/EMC_D[3], 5 P3[28]/EMC_D[28]/PWM1_5/T1_CAP1, 7 P3[13]/EMC_D[13], 11 P3[29]/EMC_D[29]/PWM1_6/T1_MAT0, 13 P3[4]/EMC_D[4], 17 P3[5]/EMC_D[5], 19 P3[30]/EMC_D[30]/U1_RTS/T1_MAT1, 21 P3[14]/EMC_D[14], 23 P3[6]/EMC_D[6], 25 P3[31]/EMC_D[31]/T1_MAT2, 27 P3[7]/EMC_D[7], 28 P3[15]/EMC_D[15], 55 P3[26]/EMC_D[26]/PWM1_3/T0_MAT1/STCLK, 56 P3[25]/EMC_D[25]/PWM1_2/T0_MAT0, 58 P3[24]/EMC_D[24]/PWM1_1/T0_CAP1, 65 P3[23]/EMC_D[23]/PWM1_CAP0/T0_CAP0, 137 P3[16]/EMC_D[16]/PWM0_1/U1_TXD, 143 P3[17]/EMC_D[17]/PWM0_2/U1_RXD, 151 P3[18]/EMC_D[18]/PWM0_3/U1_CTS, 161 P3[19]/EMC_D[19]/PWM0_4/U1_DCD, 167 P3[20]/EMC_D[20]/PWM0_5/U1_DSR, 175 P3[21]/EMC_D[21]/PWM0_6/U1_DTR, 191 P3[8]/EMC_D[8], 195 P3[22]/EMC_D[22]/PWM0_CAP0/U1_RI, 197 P3[0]/EMC_D[0], 199 P3[9]/EMC_D[9], 201 P3[1]/EMC_D[1], 203 P3[27]/EMC_D[27]/PWM1_4/T1_CAP0, 205 P3[10]/EMC_D[10], 207 P3[2]/EMC_D[2], 208 P3[11]/EMC_D[11]
part E pins: 75 P4[0]/EMC_A[0], 79 P4[1]/EMC_A[1], 83 P4[2]/EMC_A[2], 97 P4[3]/EMC_A[3], 101 P4[16]/EMC_A[16], 103 P4[4]/EMC_A[4], 104 P4[17]/EMC_A[17], 105 P4[18]/EMC_A[18], 107 P4[5]/EMC_A[5], 109 P4[20]/EMC_A[20]/I2C2_SDA/SSP1_SCK, 111 P4[19]/EMC_A[19], 113 P4[6]/EMC_A[6], 115 P4[21]/EMC_A[21]/I2C2_SCL/SSP1_SSEL, 119 P4[26]/~{EMC_BLS0}, 121 P4[7]/EMC_A[7], 123 P4[22]/EMC_A[22]/U2_TXD/SSP1_MISO, 127 P4[8]/EMC_A[8], 129 P4[23]/EMC_A[23]/U2_RXD/SSP1_MOSI, 131 P4[9]/EMC_A[9], 135 P4[10]/EMC_A[10], 139 P4[27]/~{EMC_BLS1}, 145 P4[11]/EMC_A[11], 149 P4[12]/EMC_A[12], 155 P4[13]/EMC_A[13], 159 P4[14]/EMC_A[14], 170 P4[28]/~{EMC_BLS2}/U3_TXD/T2_MAT0, 173 P4[15]/EMC_A[15], 176 P4[29]/~{EMC_BLS3}/U3_RXD/T2_MAT1/I2C2_SCL, 179 P4[25]/~{EMC_WE}, 183 P4[24]/~{EMC_OE}, 187 P4[30]/~{EMC_CS0}, 193 P4[31]/~{EMC_CS1}
part F pins: 2 JTAG_TDO/SWO, 4 JTAG_TDI, 6 JTAG_TMS/SWDIO, 8 JTAG_~{TRST}, 9 P5[0]/EMC_A[24]/T2_MAT2, 10 JTAG_TCK/SWDCLK, 15 VDD(3V3), 20 VDDA, 22 VSSA, 24 VREFP, 26 VDD(REG)(3V3), 29 ~{RSTOUT}, 30 P5[1]/EMC_A[25]/T2_MAT3, 32 VSSREG, 33 VSS, 34 RTCX1, 35 ~{RESET}, 36 RTCX2, 37 RTC_ALARM, 38 VBAT, 44 XTAL1, 46 XTAL2, 60 VDD(3V3), 63 VSS, 71 VDD(3V3), 77 VSS, 84 VSSREG, 86 VDD(REG)(3V3), 89 VDD(3V3), 93 VSS, 112 VDD(3V3), 114 VSS, 117 P5[2]/T3_MAT2/I2C0_SCL, 125 VDD(3V3), 133 VSS, 141 P5[3]/U4_RXD/I2C0_SCL, 146 VDD(3V3), 148 VSS, 165 VDD(3V3), 169 VSS, 172 VSSREG, 174 VDD(REG)(3V3), 181 VDD(3V3), 189 VSS, 198 VDD(3V3), 200 VSS, 206 P5[4]/U0_OE/T3_MAT3/U4_TXD

## LPC2368FBD100
designator U?
NXP ARM7
footprint LQFP-100 (14mmx14mmx1.4mm)
pins: 1 TDO, 2 TDI, 3 TMS, 4 ~{TRST}, 5 TCK, 6 P0.26/AD0.3/AOUT/RXD3, 7 P0.25/AD0.2/I2SRX_SDA/TXD3, 8 P0.24/AD0.1/I2SRX_WS/CAP3.1, 9 P0.23/AD0.0/I2SRX_CLK/CAP3.0, 10 VDDA, 11 VSSA, 12 VREF, 13 VDC-DC3V3, 14 ~{RSTOUT}, 15 Vss, 16 RTCK1, 17 ~{RESET}, 18 RTCK2, 19 VBAT, 20 P1.31/SCK1/AD0.5, 21 P1.30/Vbus/AD0.4, 22 X1, 23 X2, 24 P0.28/SCL0, 25 P0.27/SDA0, 26 P3.26/MAT0.1/PWM1.3, 27 P3.25/MAT0.0/PWM1.2, 28 VDD, 29 P0.29/U1D+, 30 P0.30/U1D-, 31 Vss, 32 P1.18/U1UP_LED/PWM1.1/CAP1.0, 33 P1.19/CAP1.1, 34 P1.20/PWM1.2/SCK0, 35 P1.21/PWM1.3/SSEL0, 36 P1.22/MAT1.0, 37 P1.23/PWM1.4/MISO0, 38 P1.24/PWM1.5/MOSI0, 39 P1.25/MAT1.1, 40 P1.26/PWM1.6/CAP0.0, 41 Vss, 42 VDC-DC3V3, 43 P1.27/CAP0.1, 44 P1.28/PCAP1.0/MAT0.0, 45 P1.29/PCAP1.1/MAT0.1, 46 P0.0/RD1/TXD3/SDA1, 47 P0.1/TD1/RXD3/SCL1, 48 P0.10/TXD2/SDA2/MAT3.0, 49 P0.11/RXD2/SCL2/MAT3.1, 50 P2.13/~{EINT3}/MCIDAT3/I2STX_SDA, 51 P2.12/~{EINT2}/MCIDAT2/I2STX_WS, 52 P2.11/~{EINT1}/MCIDAT1/I2STX_CLK, 53 P2.10/~{EINT0}, 54 VDD, 55 Vss, 56 P0.22/RTS1/MCIDAT0/TD1, 57 P0.21/RI1/MCIPWR/RD1, 58 P0.20/DTR1/MCICMD/SCL1, 59 P0.19/DSR1/MCICLK/SDA1, 60 P0.18/DCD1/MOSI0/MOSI, 61 P0.17/CTS1/MISO0/MISO, 62 P0.15/TXD1/SCK0/SCK, 63 P0.16/RXD1/SSEL0/SSEL, 64 P2.9/U1CONNECT/RXD2/EXTIN0, 65 P2.8/TD2/TXD2/TRACEPKT3, 66 P2.7/RD2/RTS1/TRACEPKT2, 67 P2.6/PCAP1.0/RI1/TRACEPKT1, 68 P2.5/PWM1.6/DTR1/TRACEPKT0, 69 P2.4/PWM1.5/DSR1/TRACESYNC, 70 P2.3/PWM1.4/DCD1/PIPESTAT2, 71 VDD, 72 Vss, 73 P2.2/PWM1.3/CTS1/PIPESTAT1, 74 P2.1/PWM1.2/RXD1/PIPESTAT0, 75 P2.0/PWM1.1/TXD1/TRACECLK, 76 P0.9/I2STX_SDA/MOSI1/MAT2.3, 77 P0.8/I2STX_WS/MISO1/MAT2.2, 78 P0.7/I2STX_CLK/SCK1/MAT2.1, 79 P0.6/I2SRX_SDA/SSEL1/MAT2.0, 80 P0.5/I2SRX_WS/TD2/CAP2.1, 81 P0.4/I2SRX_CLK/RD2/CAP2.0, 82 P4.28/MAT2.0/TXD3, 83 Vss, 84 VDC-DC3V3, 85 P4.29/MAT2.1/RXD3, 86 P1.17/ENET-MDIO, 87 P1.16/ENET-MDC, 88 P1.15/ENET-RX_CLK, 89 P1.14/ENET-RX_ER, 90 P1.10/ENET-RXD1, 91 P1.9/ENET-RXD0, 92 P1.8/ENET-CRS, 93 P1.4/ENET-TX_EN, 94 P1.1/ENET-TXD1, 95 P1.0/ENET-TXD0, 96 VDD, 97 Vss, 98 P0.2/TXD0, 99 P0.3/RXD0, 100 RTCK

## P87LPC768FN
designator U?
NXP 51单片机
footprint DIP-20 (IC)
pins: 1 PWM3/CMP2/P0.0, 2 PWM2/P1.7, 3 PWM1/P1.6, 4 ~{RST}/P1.5, 5 VSS, 6 X1/P2.1, 7 X2/CLKOUT/P2.0, 8 ~{INT1}/P1.4, 9 SDA/~{INT}0/P1.3, 10 SCL/T0/P1.2, 11 P1.1/RXD, 12 P1.0/TXD, 13 P0.7/T1, 14 P0.6/CMP1/AD3, 15 VDD, 16 P0.5/CMPREF/AD2, 17 P0.4/CIN1A/AD1, 18 P0.3/CIN1B/AD0, 19 P0.2/CIN2A/BREAK, 20 P0.1/CIN2B/PWM0

## P89C51RD2FA
designator U?
NXP 51单片机
footprint PLCC-44 (Leaded Chip Carrier; 44 Leads; Body 16.5 x 16.5 mm)
pins: 2 T2/P10 (io), 3 T2EX/P11 (io), 4 P12 (io), 5 P13 (io), 6 P14 (io), 7 P15 (io), 8 P16 (io), 9 P17 (io), 10 RESET (in), 11 RXD/P30 (io), 13 TXD/P31 (io), 14 ~{INT0}/P32 (io), 15 ~{INT1}/P33 (io), 16 T0/P34 (io), 17 T1/P35 (io), 18 ~{WR}/P36 (io), 19 ~{RD}/P37 (io), 20 XTAL2 (in), 21 XTAL1 (in), 22 GND (power), 24 P20 (io), 25 P21 (io), 26 P22 (io), 27 P23 (io), 28 P24 (io), 29 P25 (io), 30 P26 (io), 31 P27 (io), 32 ~{PSEN} (out), 33 ALE/~{P} (out), 35 ~{EA}/VP (in), 36 P07 (io), 37 P06 (io), 38 P05 (io), 39 P04 (io), 40 P03 (io), 41 P02 (io), 42 P01 (io), 43 P00 (io), 44 VCC (power)

## P89C51RD2FN
designator U?
NXP 51单片机
footprint DIP-40 (IC)
pins: 1 P10/T2 (io), 2 P11/T2EX (io), 3 P12 (io), 4 P13 (io), 5 P14 (io), 6 P15 (io), 7 P16 (io), 8 P17 (io), 9 RESET (in), 10 RXD/P30 (io), 11 TXD/P31 (io), 12 ~{INT0}/P32 (io), 13 ~{INT1}/P33 (io), 14 T0/P34 (io), 15 T1/P35 (io), 16 ~{WR}/P36 (io), 17 ~{RD}/P37 (io), 18 XTAL2 (in), 19 XTAL1 (in), 20 GND hidden to GND, 21 P20 (io), 22 P21 (io), 23 P22 (io), 24 P23 (io), 25 P24 (io), 26 P25 (io), 27 P26 (io), 28 P27 (io), 29 ~{PSEN} (out), 30 ALE/~{P} (out), 31 ~{EA}/VP (in), 32 P07 (io), 33 P06 (io), 34 P05 (io), 35 P04 (io), 36 P03 (io), 37 P02 (io), 38 P01 (io), 39 P00 (io), 40 VCC hidden to VCC

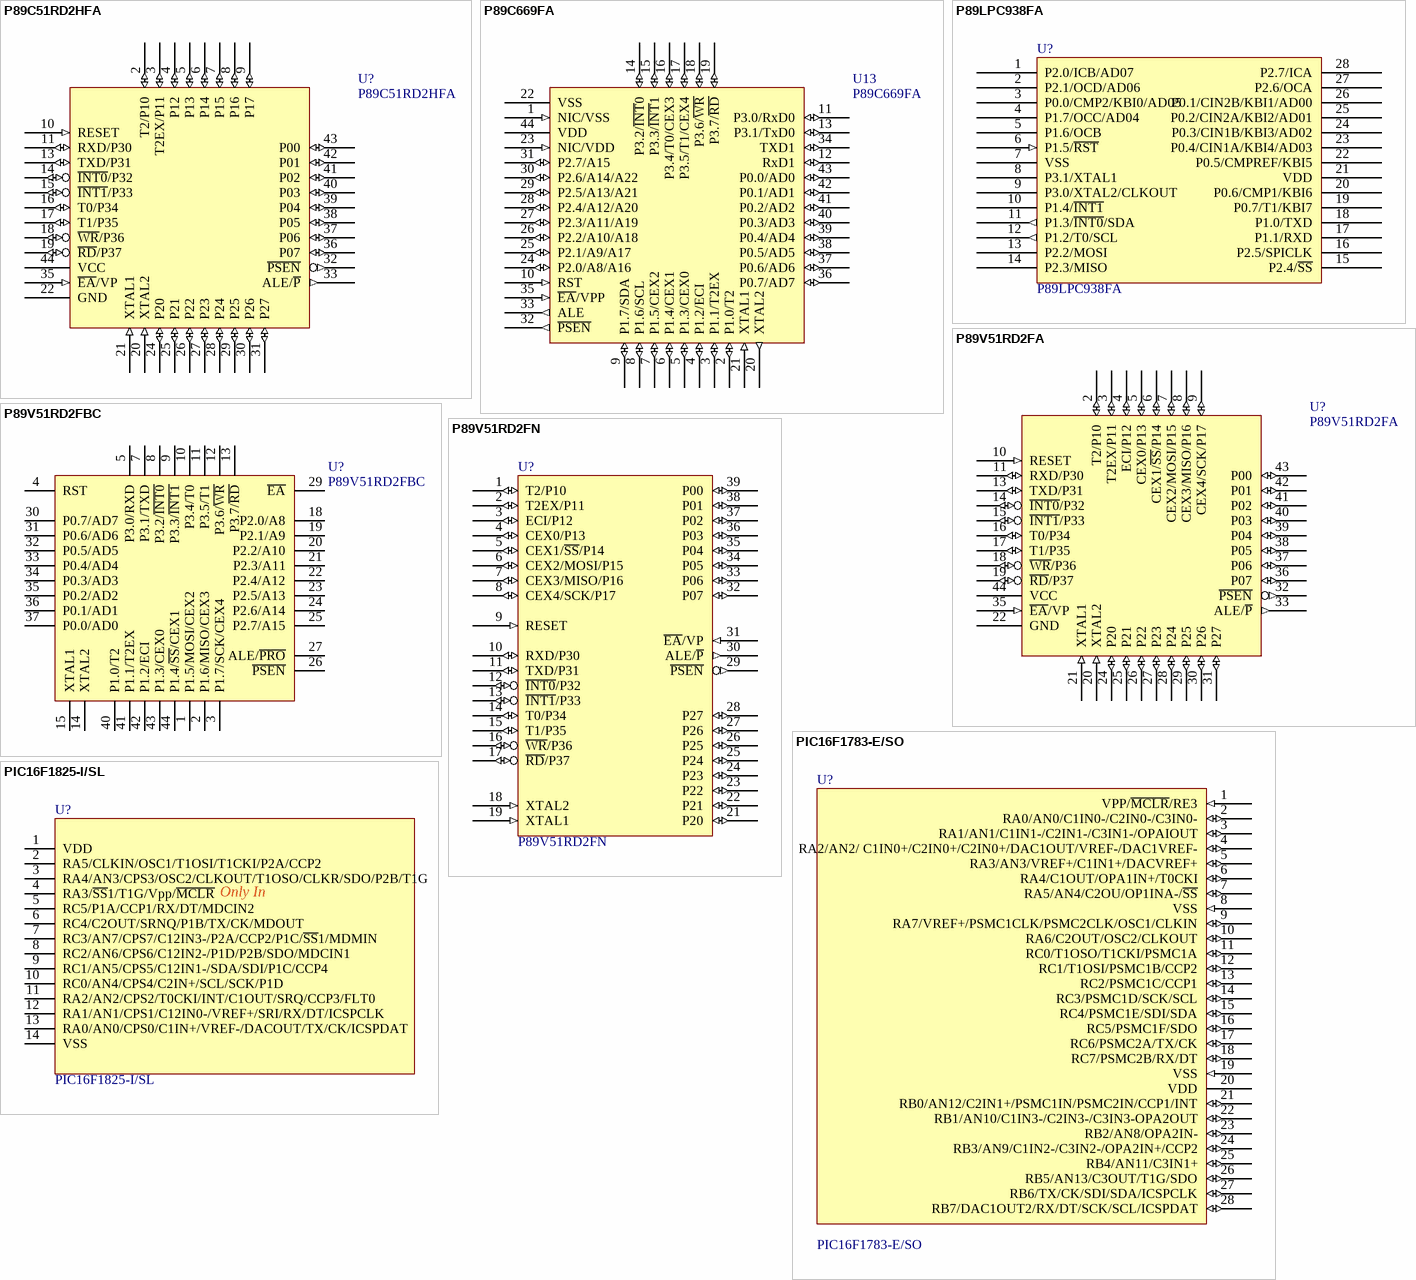
[diagram p4: symbols P89C51RD2HFA to PIC16F1825-I/SL]

## P89C51RD2HFA
designator U?
NXP 51单片机
footprint PLCC-44 (Leaded Chip Carrier; 44 Leads; Body 16.5 x 16.5 mm)
pins: 2 T2/P10 (io), 3 T2EX/P11 (io), 4 P12 (io), 5 P13 (io), 6 P14 (io), 7 P15 (io), 8 P16 (io), 9 P17 (io), 10 RESET (in), 11 RXD/P30 (io), 13 TXD/P31 (io), 14 ~{INT0}/P32 (io), 15 ~{INT1}/P33 (io), 16 T0/P34 (io), 17 T1/P35 (io), 18 ~{WR}/P36 (io), 19 ~{RD}/P37 (io), 20 XTAL2 (in), 21 XTAL1 (in), 22 GND (power), 24 P20 (io), 25 P21 (io), 26 P22 (io), 27 P23 (io), 28 P24 (io), 29 P25 (io), 30 P26 (io), 31 P27 (io), 32 ~{PSEN} (out), 33 ALE/~{P} (out), 35 ~{EA}/VP (in), 36 P07 (io), 37 P06 (io), 38 P05 (io), 39 P04 (io), 40 P03 (io), 41 P02 (io), 42 P01 (io), 43 P00 (io), 44 VCC (power)

## P89C669FA
designator U13
NXP 51单片机
footprint PLCC-44 (Leaded Chip Carrier; 44 Leads; Body 16.5 x 16.5 mm)
pins: 1 NIC/VSS (in), 2 P1.0/T2 (io), 3 P1.1/T2EX (io), 4 P1.2/ECI (io), 5 P1.3/CEX0 (io), 6 P1.4/CEX1 (io), 7 P1.5/CEX2 (io), 8 P1.6/SCL (io), 9 P1.7/SDA (io), 10 RST (in), 11 P3.0/RxD0 (io), 12 RxD1 (io), 13 P3.1/TxD0 (io), 14 P3.2/~{INT}0 (io), 15 P3.3/~{INT}1 (io), 16 P3.4/T0/CEX3 (io), 17 P3.5/T1/CEX4 (io), 18 P3.6/~{WR} (io), 19 P3.7/~{RD} (io), 20 XTAL2 (out), 21 XTAL1 (in), 22 VSS (power), 23 NIC/VDD (in), 24 P2.0/A8/A16 (io), 25 P2.1/A9/A17 (io), 26 P2.2/A10/A18 (io), 27 P2.3/A11/A19 (io), 28 P2.4/A12/A20 (io), 29 P2.5/A13/A21 (io), 30 P2.6/A14/A22 (io), 31 P2.7/A15 (io), 32 ~{PSEN} (out), 33 ALE (out), 34 TXD1 (io), 35 ~{EA}/VPP (in), 36 P0.7/AD7 (io), 37 P0.6/AD6 (io), 38 P0.5/AD5 (io), 39 P0.4/AD4 (io), 40 P0.3/AD3 (io), 41 P0.2/AD2 (io), 42 P0.1/AD1 (io), 43 P0.0/AD0 (io), 44 VDD (power)

## P89LPC938FA
designator U?
NXP 51单片机
footprint PLCC-28
pins: 1 P2.0/ICB/AD07, 2 P2.1/OCD/AD06, 3 P0.0/CMP2/KBI0/AD05, 4 P1.7/OCC/AD04, 5 P1.6/OCB, 6 P1.5/~{RST} (in), 7 VSS, 8 P3.1/XTAL1, 9 P3.0/XTAL2/CLKOUT, 10 P1.4/~{INT1}, 11 P1.3/~{INT0}/SDA (out), 12 P1.2/T0/SCL (out), 13 P2.2/MOSI, 14 P2.3/MISO, 15 P2.4/~{SS}, 16 P2.5/SPICLK, 17 P1.1/RXD, 18 P1.0/TXD, 19 P0.7/T1/KBI7, 20 P0.6/CMP1/KBI6, 21 VDD, 22 P0.5/CMPREF/KBI5, 23 P0.4/CIN1A/KBI4/AD03, 24 P0.3/CIN1B/KBI3/AD02, 25 P0.2/CIN2A/KBI2/AD01, 26 P0.1/CIN2B/KBI1/AD00, 27 P2.6/OCA, 28 P2.7/ICA

## P89V51RD2FA
designator U?
NXP 51单片机
footprint PLCC-44 (Footprint not found)
pins: 2 T2/P10 (io), 3 T2EX/P11 (io), 4 ECI/P12 (io), 5 CEX0/P13 (io), 6 CEX1/~{SS}/P14 (io), 7 CEX2/MOSI/P15 (io), 8 CEX3/MISO/P16 (io), 9 CEX4/SCK/P17 (io), 10 RESET (in), 11 RXD/P30 (io), 13 TXD/P31 (io), 14 ~{INT0}/P32 (io), 15 ~{INT1}/P33 (io), 16 T0/P34 (io), 17 T1/P35 (io), 18 ~{WR}/P36 (io), 19 ~{RD}/P37 (io), 20 XTAL2 (in), 21 XTAL1 (in), 22 GND (power), 24 P20 (io), 25 P21 (io), 26 P22 (io), 27 P23 (io), 28 P24 (io), 29 P25 (io), 30 P26 (io), 31 P27 (io), 32 ~{PSEN} (out), 33 ALE/~{P} (out), 35 ~{EA}/VP (in), 36 P07 (io), 37 P06 (io), 38 P05 (io), 39 P04 (io), 40 P03 (io), 41 P02 (io), 42 P01 (io), 43 P00 (io), 44 VCC (power)

## P89V51RD2FBC
designator U?
NXP 51单片机
footprint TQFP-44
pins: 1 P1.5/MOSI/CEX2, 2 P1.6/MISO/CEX3, 3 P1.7/SCK/CEX4, 4 RST, 5 P3.0/RXD, 7 P3.1/TXD, 8 P3.2/~{INT0}, 9 P3.3/~{INT1}, 10 P3.4/T0, 11 P3.5/T1, 12 P3.6/~{WR}, 13 P3.7/~{RD}, 14 XTAL2, 15 XTAL1, 16 GND hidden to GND, 18 P2.0/A8, 19 P2.1/A9, 20 P2.2/A10, 21 P2.3/A11, 22 P2.4/A12, 23 P2.5/A13, 24 P2.6/A14, 25 P2.7/A15, 26 ~{PSEN}, 27 ALE/~{PRO}, 29 ~{EA}, 30 P0.7/AD7, 31 P0.6/AD6, 32 P0.5/AD5, 33 P0.4/AD4, 34 P0.3/AD3, 35 P0.2/AD2, 36 P0.1/AD1, 37 P0.0/AD0, 38 VCC hidden to VCC, 40 P1.0/T2, 41 P1.1/T2EX, 42 P1.2/ECI, 43 P1.3/CEX0, 44 P1.4/~{SS}/CEX1

## P89V51RD2FN
designator U?
NXP 51单片机
footprint DIP40
pins: 1 T2/P10 (io), 2 T2EX/P11 (io), 3 ECI/P12 (io), 4 CEX0/P13 (io), 5 CEX1/~{SS}/P14 (io), 6 CEX2/MOSI/P15 (io), 7 CEX3/MISO/P16 (io), 8 CEX4/SCK/P17 (io), 9 RESET (in), 10 RXD/P30 (io), 11 TXD/P31 (io), 12 ~{INT0}/P32 (io), 13 ~{INT1}/P33 (io), 14 T0/P34 (io), 15 T1/P35 (io), 16 ~{WR}/P36 (io), 17 ~{RD}/P37 (io), 18 XTAL2 (in), 19 XTAL1 (in), 20 GND (power) hidden to GND, 21 P20 (io), 22 P21 (io), 23 P22 (io), 24 P23 (io), 25 P24 (io), 26 P25 (io), 27 P26 (io), 28 P27 (io), 29 ~{PSEN} (out), 30 ALE/~{P} (out), 31 ~{EA}/VP (in), 32 P07 (io), 33 P06 (io), 34 P05 (io), 35 P04 (io), 36 P03 (io), 37 P02 (io), 38 P01 (io), 39 P00 (io), 40 VCC (power) hidden to VCC

## PIC16F1783-E/SO
designator U?
MicroChip PIC单片机
footprint SO-28
pins: 1 VPP/~{MCLR}/RE3 (in), 2 RA0/AN0/C1IN0-/C2IN0-/C3IN0- (io), 3 RA1/AN1/C1IN1-/C2IN1-/C3IN1-/OPAIOUT (io), 4 RA2/AN2/ C1IN0+/C2IN0+/C2IN0+/DAC1OUT/VREF-/DAC1VREF- (io), 5 RA3/AN3/VREF+/C1IN1+/DACVREF+ (io), 6 RA4/C1OUT/OPA1IN+/T0CKI (io), 7 RA5/AN4/C2OU/OP1INA-/~{SS} (io), 8 VSS (in), 9 RA7/VREF+/PSMC1CLK/PSMC2CLK/OSC1/CLKIN (io), 10 RA6/C2OUT/OSC2/CLKOUT (io), 11 RC0/T1OSO/T1CKI/PSMC1A (io), 12 RC1/T1OSI/PSMC1B/CCP2 (io), 13 RC2/PSMC1C/CCP1 (io), 14 RC3/PSMC1D/SCK/SCL (io), 15 RC4/PSMC1E/SDI/SDA (io), 16 RC5/PSMC1F/SDO (io), 17 RC6/PSMC2A/TX/CK (io), 18 RC7/PSMC2B/RX/DT (io), 19 VSS (in), 20 VDD (power), 21 RB0/AN12/C2IN1+/PSMC1IN/PSMC2IN/CCP1/INT (io), 22 RB1/AN10/C1IN3-/C2IN3-/C3IN3-OPA2OUT (io), 23 RB2/AN8/OPA2IN- (io), 24 RB3/AN9/C1IN2-/C3IN2-/OPA2IN+/CCP2 (io), 25 RB4/AN11/C3IN1+ (io), 26 RB5/AN13/C3OUT/T1G/SDO (io), 27 RB6/TX/CK/SDI/SDA/ICSPCLK (io), 28 RB7/DAC1OUT2/RX/DT/SCK/SCL/ICSPDAT (io)

## PIC16F1825-I/SL
designator U?
MicroChip PIC单片机
footprint SO-14 (Footprint not found)
pins: 1 VDD, 2 RA5/CLKIN/OSC1/T1OSI/T1CKI/P2A/CCP2, 3 RA4/AN3/CPS3/OSC2/CLKOUT/T1OSO/CLKR/SDO/P2B/T1G, 4 RA3/~{SS}1/T1G/Vpp/~{MCLR}, 5 RC5/P1A/CCP1/RX/DT/MDCIN2, 6 RC4/C2OUT/SRNQ/P1B/TX/CK/MDOUT, 7 RC3/AN7/CPS7/C12IN3-/P2A/CCP2/P1C/~{SS}1/MDMIN, 8 RC2/AN6/CPS6/C12IN2-/P1D/P2B/SDO/MDCIN1, 9 RC1/AN5/CPS5/C12IN1-/SDA/SDI/P1C/CCP4, 10 RC0/AN4/CPS4/C2IN+/SCL/SCK/P1D, 11 RA2/AN2/CPS2/T0CKI/INT/C1OUT/SRQ/CCP3/FLT0, 12 RA1/AN1/CPS1/C12IN0-/VREF+/SRI/RX/DT/ICSPCLK, 13 RA0/AN0/CPS0/C1IN+/VREF-/DACOUT/TX/CK/ICSPDAT, 14 VSS
text: Only In

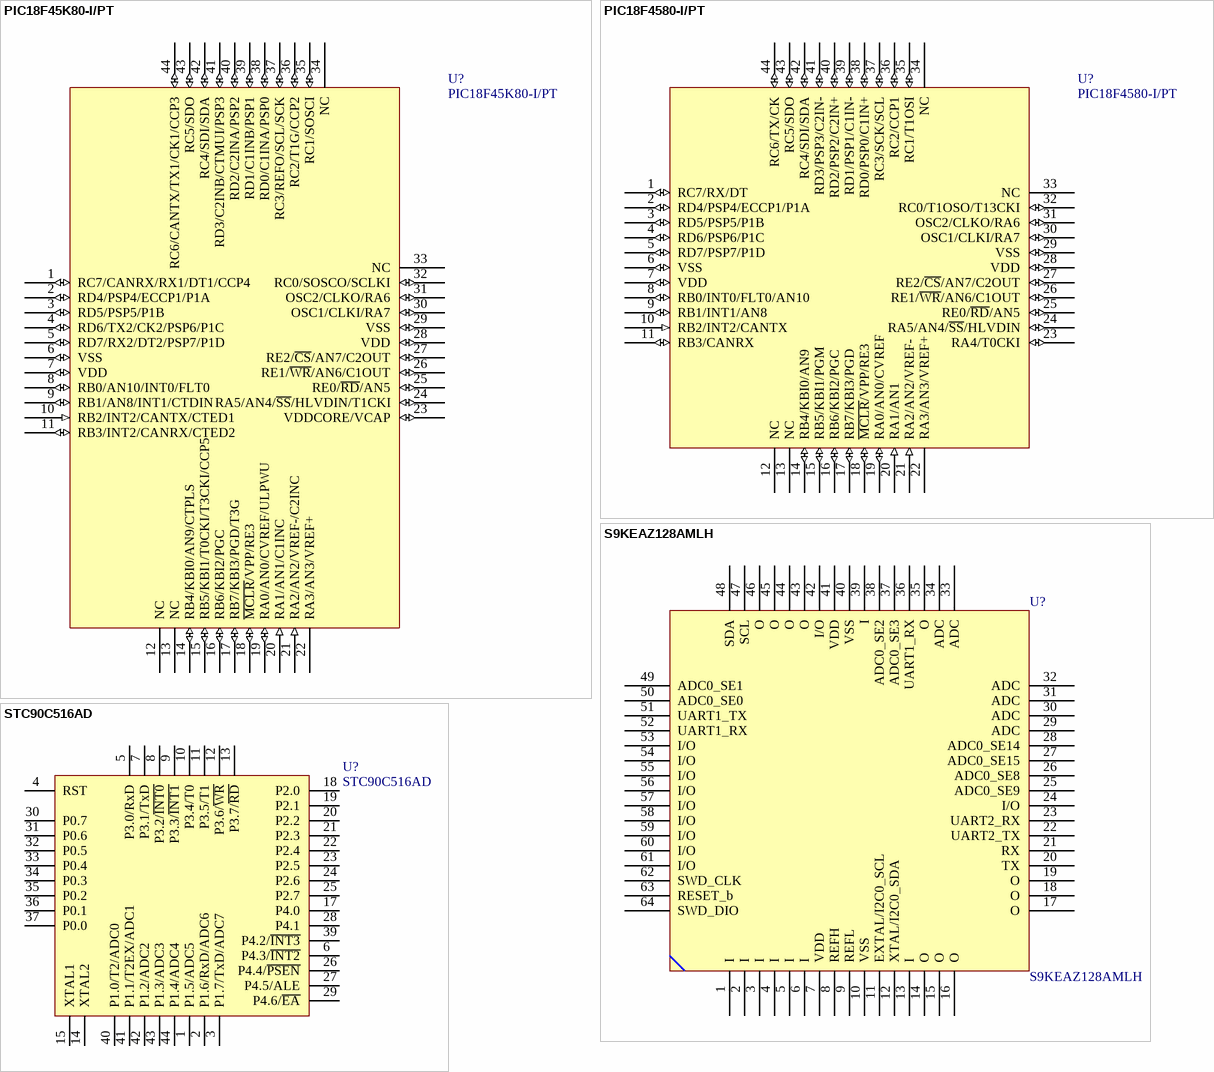
[diagram p5: symbols PIC18F45K80-I/PT to STC90C516AD]

## PIC18F45K80-I/PT
designator U?
MicroChip PIC单片机
footprint TQFP-44
pins: 1 RC7/CANRX/RX1/DT1/CCP4 (io), 2 RD4/PSP4/ECCP1/P1A (io), 3 RD5/PSP5/P1B (io), 4 RD6/TX2/CK2/PSP6/P1C (io), 5 RD7/RX2/DT2/PSP7/P1D (io), 6 VSS (io), 7 VDD (io), 8 RB0/AN10/INT0/FLT0 (io), 9 RB1/AN8/INT1/CTDIN (io), 10 RB2/INT2/CANTX/CTED1 (in), 11 RB3/INT2/CANRX/CTED2 (io), 12 NC, 13 NC, 14 RB4/KBI0/AN9/CTPLS (io), 15 RB5/KBI1/T0CKI/T3CKI/CCP5 (io), 16 RB6/KBI2/PGC (io), 17 RB7/KBI3/PGD/T3G (io), 18 ~{MCLR}/VPP/RE3 (io), 19 RA0/AN0/CVREF/ULPWU (io), 20 RA1/AN1/C1INC (in), 21 RA2/AN2/VREF-/C2INC (in), 22 RA3/AN3/VREF+ (power), 23 VDDCORE/VCAP (io), 24 RA5/AN4/~{SS}/HLVDIN/T1CKI (io), 25 RE0/~{RD}/AN5 (io), 26 RE1/~{WR}/AN6/C1OUT (io), 27 RE2/~{CS}/AN7/C2OUT (io), 28 VDD (io), 29 VSS (io), 30 OSC1/CLKI/RA7 (io), 31 OSC2/CLKO/RA6 (io), 32 RC0/SOSCO/SCLKI (io), 33 NC, 34 NC, 35 RC1/SOSCI (io), 36 RC2/T1G/CCP2 (io), 37 RC3/REFO/SCL/SCK (io), 38 RD0/C1INA/PSP0 (io), 39 RD1/C1INB/PSP1 (io), 40 RD2/C2INA/PSP2 (io), 41 RD3/C2INB/CTMUI/PSP3 (io), 42 RC4/SDI/SDA (io), 43 RC5/SDO (io), 44 RC6/CANTX/TX1/CK1/CCP3 (io)

## PIC18F4580-I/PT
designator U?
MicroChip PIC单片机
footprint TQFP-44
pins: 1 RC7/RX/DT (io), 2 RD4/PSP4/ECCP1/P1A (io), 3 RD5/PSP5/P1B (io), 4 RD6/PSP6/P1C (io), 5 RD7/PSP7/P1D (io), 6 VSS (io), 7 VDD (io), 8 RB0/INT0/FLT0/AN10 (io), 9 RB1/INT1/AN8 (io), 10 RB2/INT2/CANTX (in), 11 RB3/CANRX (io), 12 NC, 13 NC, 14 RB4/KBI0/AN9 (io), 15 RB5/KBI1/PGM (io), 16 RB6/KBI2/PGC (io), 17 RB7/KBI3/PGD (io), 18 ~{MCLR}/VPP/RE3 (io), 19 RA0/AN0/CVREF (io), 20 RA1/AN1 (in), 21 RA2/AN2/VREF- (in), 22 RA3/AN3/VREF+ (power), 23 RA4/T0CKI (io), 24 RA5/AN4/~{SS}/HLVDIN (io), 25 RE0/~{RD}/AN5 (io), 26 RE1/~{WR}/AN6/C1OUT (io), 27 RE2/~{CS}/AN7/C2OUT (io), 28 VDD (io), 29 VSS (io), 30 OSC1/CLKI/RA7 (io), 31 OSC2/CLKO/RA6 (io), 32 RC0/T1OSO/T13CKI (io), 33 NC, 34 NC, 35 RC1/T1OSI (io), 36 RC2/CCP1 (io), 37 RC3/SCK/SCL (io), 38 RD0/PSP0/C1IN+ (io), 39 RD1/PSP1/C1IN- (io), 40 RD2/PSP2/C2IN+ (io), 41 RD3/PSP3/C2IN- (io), 42 RC4/SDI/SDA (io), 43 RC5/SDO (io), 44 RC6/TX/CK (io)

## S9KEAZ128AMLH
designator U?
Freescale单片机
pins: 1 I, 2 I, 3 I, 4 I, 5 I, 6 I, 7 VDD, 8 REFH, 9 REFL, 10 VSS, 11 EXTAL/I2C0_SCL, 12 XTAL/I2C0_SDA, 13 I, 14 O, 15 O, 16 O, 17 O, 18 O, 19 O, 20 TX, 21 RX, 22 UART2_TX, 23 UART2_RX, 24 I/O, 25 ADC0_SE9, 26 ADC0_SE8, 27 ADC0_SE15, 28 ADC0_SE14, 29 ADC, 30 ADC, 31 ADC, 32 ADC, 33 ADC, 34 ADC, 35 O, 36 UART1_RX, 37 ADC0_SE3, 38 ADC0_SE2, 39 I, 40 VSS, 41 VDD, 42 I/O, 43 O, 44 O, 45 O, 46 O, 47 SCL, 48 SDA, 49 ADC0_SE1, 50 ADC0_SE0, 51 UART1_TX, 52 UART1_RX, 53 I/O, 54 I/O, 55 I/O, 56 I/O, 57 I/O, 58 I/O, 59 I/O, 60 I/O, 61 I/O, 62 SWD_CLK, 63 RESET_b, 64 SWD_DIO
2 alternate drawings of the same symbol

## STC90C516AD
designator U?
NXP 51单片机
footprint LQFP-44
pins: 1 P1.5/ADC5, 2 P1.6/RxD/ADC6, 3 P1.7/TxD/ADC7, 4 RST, 5 P3.0/RxD, 6 P4.3/~{INT2}, 7 P3.1/TxD, 8 P3.2/~{INT0}, 9 P3.3/~{INT1}, 10 P3.4/T0, 11 P3.5/T1, 12 P3.6/~{WR}, 13 P3.7/~{RD}, 14 XTAL2, 15 XTAL1, 16 GND hidden to GND, 17 P4.0, 18 P2.0, 19 P2.1, 20 P2.2, 21 P2.3, 22 P2.4, 23 P2.5, 24 P2.6, 25 P2.7, 26 P4.4/~{PSEN}, 27 P4.5/ALE, 28 P4.1, 29 P4.6/~{EA}, 30 P0.7, 31 P0.6, 32 P0.5, 33 P0.4, 34 P0.3, 35 P0.2, 36 P0.1, 37 P0.0, 38 VCC hidden to VCC, 39 P4.2/~{INT3}, 40 P1.0/T2/ADC0, 41 P1.1/T2EX/ADC1, 42 P1.2/ADC2, 43 P1.3/ADC3, 44 P1.4/ADC4